# EAGLE library part 690367181472 (library Board-to-Board (rev18a))
WR-MM Female Connector without Latch and without Polarization, 14 Pins=>Code : Con_BTB_MM_Female_THT_St_690367181472 <http://katalog.we-online.de/media/thumbs2/eican/thb_Con_BTB_MM_Female_THT_St_69036718xx72_pf2.jpg> Details see: http://katalog.we-online.de/en/em/6903_6718_xx_72 Created 2014-06-04, Karrer Zheng 2014 (C) Würth Elektronik
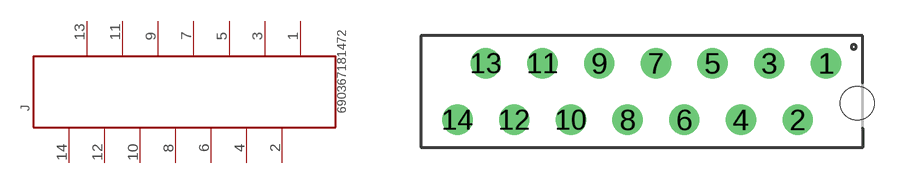
[diagram p331: symbol with the pads of 690367181472; footprint 690367181472]

Designator prefix J

## 690367181472  [690367181472]
1  14  pas
2  13  pas
3  12  pas
4  11  pas
5  10  pas
6  9  pas
7  8  pas
8  7  pas
9  6  pas
10  5  pas
11  4  pas
12  3  pas
13  2  pas
14  1  pas

## Footprint 690367181472 (pad centres in mm)
WR-MM Female Connector without Latch and without Polarization, 14 Pins
drill 0.85: 1 8.255,1.27; 2 6.985,-1.27; 3 5.715,1.27; 4 4.445,-1.27; 5 3.175,1.27; 6 1.905,-1.27; 7 0.635,1.27; 8 -0.635,-1.27; 9 -1.905,1.27; 10 -3.175,-1.27; 11 -4.445,1.27; 12 -5.715,-1.27; 13 -6.985,1.27; 14 -8.255,-1.27
hole 1.5 at 9.655,-0.53